# Altium schematic symbol library UROV_Aux_Lib.SchLib: 7 symbols
Pins are listed as number, name and electrical type; pins without a type are passive.

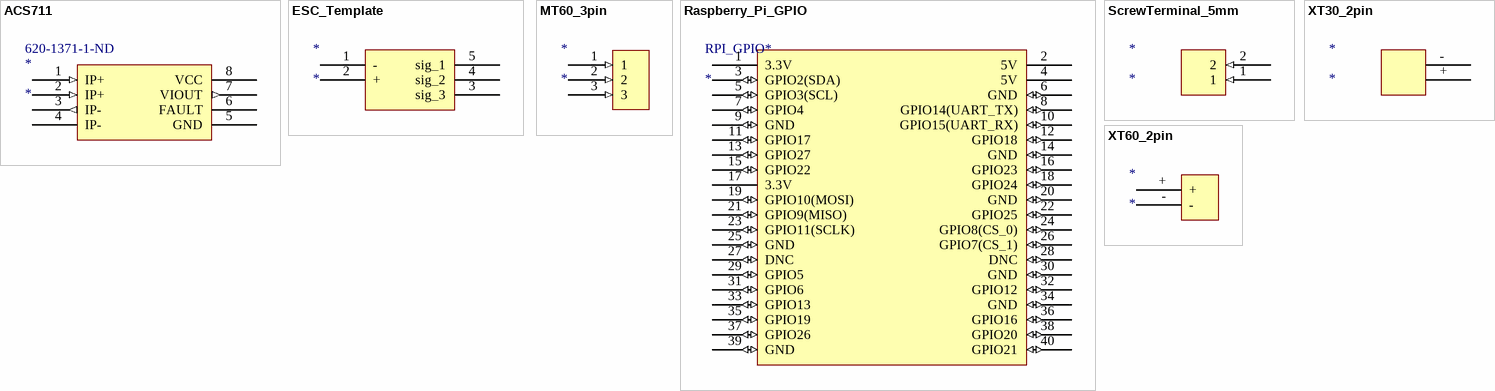
[diagram p0: symbols ACS711 to XT60_2pin]

## ACS711
designator *  Supplier Part Number 1: 620-1371-1-ND
Manufacturer: Allegro MicroSystems, LLC; Manufacturer Part Number: ACS711ELCTR-25AB-T; For Measuring: AC/DC; Sensor Type: Hall Effect, Open Loop; Current - Sensing: 25A; Output: Ratiometric, Voltage; Sensitivity: 55mV/A; Frequency: DC ~ 100kHz; Linearity: ±1%; Accuracy: ±4%; Voltage - Supply: 3 V ~ 5.5 V; Response Time: 4.6µs; Current - Supply (Max): 5.5mA; Polarization: Bidirectional; Supplier 1: Digi-Key; RoHS: RoHS Compliant; Category: Sensors, Transducers; Stock 1: 19632; Pricing 1: 1=3.36, 5=3.116, 10=2.588, 25=2.1568, 50=1.9174, 100=1.8214, 500=1.53384, 1000=1.43798 (USD); Packaging: Cut Tape (CT); Part Status: Active; Operating Temperature: -40°C ~ 85°C; Mounting Type: Surface Mount; Package / Case: 8-SOIC (0.154", 3.90mm Width); ComponentLink1URL: http://www.allegromicro.com/~/media/Files/Datasheets/ACS711-Datasheet.ashx; ComponentLink1Description: http://www.allegromicro.com/~/media/Files/Datasheets/ACS711-Datasheet.ashx
footprint SOIC127P600X175-8N (SOIC, 8-Leads, Body 4.90x3.90mm, Pitch 1.27mm, IPC Medium Density)
pins: 1 IP+ (in), 2 IP+ (in), 3 IP- (out), 4 IP-, 5 GND (power), 6 FAULT, 7 VIOUT (out), 8 VCC (power)

## ESC_Template
designator *
footprint ESC_mounts
pins: 1 -, 2 +, 3 sig_3, 4 sig_2, 5 sig_1

## MT60_3pin
designator *
footprint MT60_3pin
pins: 1 (in), 2 (in), 3 (in)

## Raspberry_Pi_GPIO
designator RPI_GPIO*
footprint HDR2X20 (Connector; Header; 20x2 Position)
pins: 1 3.3V (power), 2 5V (power), 3 GPIO2(SDA) (io), 4 5V (power), 5 GPIO3(SCL) (io), 6 GND (io), 7 GPIO4 (io), 8 GPIO14(UART_TX) (io), 9 GND (io), 10 GPIO15(UART_RX) (io), 11 GPIO17 (io), 12 GPIO18 (io), 13 GPIO27 (io), 14 GND (io), 15 GPIO22 (io), 16 GPIO23 (io), 17 3.3V (power), 18 GPIO24 (io), 19 GPIO10(MOSI)  (io), 20 GND (io), 21 GPIO9(MISO) (io), 22 GPIO25 (io), 23 GPIO11(SCLK) (io), 24 GPIO8(CS_0) (io), 25 GND (io), 26 GPIO7(CS_1) (io), 27 DNC (io), 28 DNC (io), 29 GPIO5 (io), 30 GND (io), 31 GPIO6 (io), 32 GPIO12 (io), 33 GPIO13 (io), 34 GND (io), 35 GPIO19 (io), 36 GPIO16 (io), 37 GPIO26 (io), 38 GPIO20 (io), 39 GND (io), 40 GPIO21 (io)

## ScrewTerminal_5mm
designator *
footprint Screw_Terminal_5mm
pins: 1 (in), 2 (in)

## XT30_2pin
designator *
footprint XT30_2pin
pins: +, -

## XT60_2pin
designator *
footprint XT60_2pin
pins: +, -